# Altium schematic symbol library MFP-25BRD52-15K.SchLib: 2 symbols
Pins are listed as number, name and electrical type; pins without a type are passive.

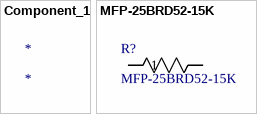
[diagram p0: symbols Component_1 to MFP-25BRD52-15K]

## Component_1
designator *

## MFP-25BRD52-15K
designator R?
No Description Available; Mfr_Name: Yageo; Copyright: Copyright (C) 2022 Ultra Librarian. All rights reserved.; Manufacturer_Part_Number: MFP-25BRD52-15K; Digi-Key_Part_Number_1: 15KADCT-ND; Digi-Key_Part_Number_2: 15KADTR-ND; RefDes: RefDes; Type: DEV
footprint YAG_MF25_YAG
pins: 1, 2